# Altium schematic symbol library Other.SchLib: 32 symbols
Pins are listed as number, name and electrical type; pins without a type are passive.

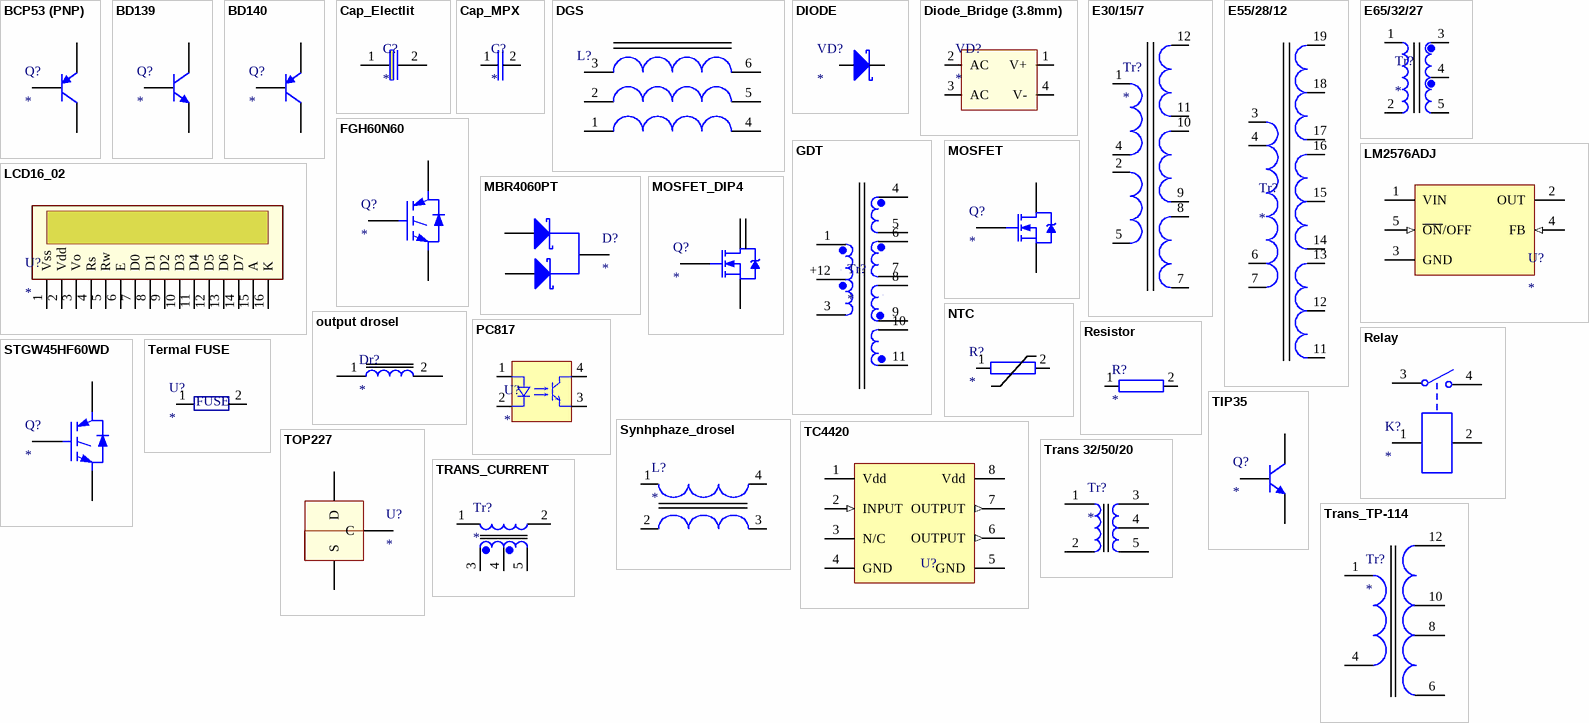
[diagram p0: symbols BCP53 (PNP) to Trans_TP-114]

## BCP53 (PNP)
designator Q?
footprint SOT223-4L (SOT223, 4-Leads, Body 6.5x3.5mm, Pitch 2.3mm, Lead Span 7mm, IPC High Density)
pins: 1 B, 2 C, 3 E

## BD139
designator Q?
footprint to-126
pins: 1 E, 2 C, 3 B

## BD140
designator Q?
footprint to-126
pins: 1 E, 2 C, 3 B

## Cap_Electlit
designator C?
footprint CAP 470uF/450V (35x11)
footprint CAP100uF/450V
footprint CAPPR7.5-16x25 (Capacitor, Electrolytic, Radial; Body 16 x 25 mm (Dia.xH typ); Pin Spacing 7.5 mm (typ))
footprint CAPPRS10-22x45 (Capacitor, Electrolytic, Radial, Snap-In Pins; Body 22 x 45 mm (Dia.xH typ); Pin Spacing 10 mm (typ))
footprint CAPPRS10-22x45 (Capacitor, Electrolytic, Radial, Snap-In Pins; Body 22 x 45 mm (Dia.xH typ); Pin Spacing 10 mm (typ))
footprint CAPPR5-13x25 (Capacitor, Electrolytic, Radial; Body 13 x 25 mm (Dia.xH typ); Pin Spacing 5 mm (typ))
pins: 1, 2

## Cap_MPX
designator C?
footprint Cap_(15mm)
footprint Cap_1kV_Y_(8mm)
footprint CAPR5.08-5.1x2.5 (Capacitor, Ceramic, Thru-Hole, Dipped Radial; Body 5.1 x 2.5 mm (WxT) Pin Spacing 5.08 mm (typ))
footprint CAPR10.16-11.5x3.6 (Capacitor, Ceramic, Thru-Hole, Dipped Radial; Body 11.5 x 3.6 mm (WxT) Pin Spacing 10.16 mm (typ))
pins: 1, 2

## DGS
designator L?
footprint Drosel_Group_Stab
pins: 1 3, 2, 3 1, 4, 5, 6

## DIODE
designator VD?
footprint 1n4007
footprint SR5100
footprint DIO20.5-10x5.8 (Diode, Axial; Body 9.9 x 5.8 mm (LxDia. max), Lead Dia. 1.5 mm (max))
pins: 1 A1, 2 K2

## Diode_Bridge (3.8mm)
designator VD?
footprint DIODE_BRIDGE (3.8mm)
footprint diode_bridge(7.5mm)
footprint KBPC5010
pins: 1 V+, 2 AC, 3 AC, 4 V-

## E30/15/7
designator Tr?
footprint E30/15/7
pins: 1, 2, 4, 5, 7, 8, 9, 10, 11, 12

## E55/28/12
designator Tr?
footprint E55/28/21
pins: 3, 4, 6, 7, 11, 12, 13, 14, 15, 16, 17, 18, 19

## E65/32/27
designator Tr?
footprint E65/35/27
pins: 1 0, 2 1, 3 2, 4 3, 5 4

## FGH60N60
designator Q?
footprint TO_247
pins: 1 G, 2 C, 3 E

## GDT
designator Tr?
footprint GDT_full_bridge
pins: 1, 3, 4, 5 VT1, 6, 7, 8, 9, 10, 11, +12 2

## LCD16_02
designator U?
footprint LCD16x02
footprint LCD-1602A
pins: 1 Vss, 2 Vdd, 3 Vo, 4 Rs, 5 Rw, 6 E, 7 D0, 8 D1, 9 D2, 10 D3, 11 D4, 12 D5, 13 D6, 14 D7, 15 A, 16 K

## LM2576ADJ
designator U?
footprint T0-220-5A (TO, Thru-Hole, Vertical, Heatsink Mounted; 5 In-Line Leads; Pitch 1.70 mm)
pins: 1 VIN (power), 2 OUT (power), 3 GND (power), 4 FB (in), 5 ~{ON}/OFF (in)

## MBR4060PT
designator D?
footprint TO_247
footprint TO-220AB (TO, Thru-Hole, Vertical, Heatsink Mounted; 3 In-Line Leads; Pitch 2.54 mm)
pins: 1 A1, 2 K, 3 A2

## MOSFET
designator Q?
footprint TO_247
pins: 1 G, 2 D, 3 S

## MOSFET_DIP4
designator Q?
footprint DIP-4 (DIP; 4 Leads; Row Spacing 7.62 mm; Pitch 2.54 mm)
pins: 1 G, 2 S, 3 D, 4 D

## NTC
designator R?
footprint RESISTOR_0.125W
pins: 1, 2

## output drosel
designator Dr?
footprint Dresel(green-blue)
pins: 1, 2

## PC817
designator U?
footprint DIP-4 (DIP; 4 Leads; Row Spacing 7.62 mm; Pitch 2.54 mm)
pins: 1 A, 2 K, 3 E, 4 C

## Relay
designator K?
footprint SLA-24VDC-SL-A
pins: 1, 2, 3, 4

## Resistor
designator R?
footprint Resistor_5w
footprint RESISTOR_2W
footprint RESISTOR_1W
footprint RESISTOR_0.5W
footprint RESISTOR_0.25W
footprint RESISTOR_0.125W
footprint RES17.2-13.5X6.3 (Resistor, Axial; Body 13.5 x 6.3 mm (LxDia. max), Lead Dia. 0.7 mm (max))
footprint RES41.6-36.5X10.5 (Resistor, Axial; Body 36.5 x 10.5 x 10.5mm (LxWxH max), Lead Dia. 0.85 mm (max))
pins: 1, 2

## STGW45HF60WD
designator Q?
footprint TO_247
pins: 1 G, 2 C, 3 E

## Synhphaze_drosel
designator L?
footprint L_filtr_EE
footprint Drosel
pins: 1, 2, 3, 4

## TC4420
designator U?  (value not drawn)
footprint DIP-8 (DIP; 8 Leads; Row Spacing 7.62 mm; Pitch 2.54 mm)
pins: 1 Vdd (power), 2 INPUT (in), 3 N/C (power), 4 GND (power), 5 GND (power), 6 OUTPUT (out), 7 OUTPUT (out), 8 Vdd (power)

## Termal FUSE
designator U?
footprint TO220-2 TERMOSTAT
pins: 1, 2
text: FUSE

## TIP35
designator Q?
footprint TO_247
pins: 1 B, 2 C, 3 E

## TOP227
designator U?
footprint TO-220AB (TO, Thru-Hole, Vertical, Heatsink Mounted; 3 In-Line Leads; Pitch 2.54 mm)
pins: 1 C, 2 S, 3 D

## Trans 32/50/20
designator Tr?
footprint Trans 32/50/20
pins: 1, 2, 3, 4, 5

## TRANS_CURRENT
designator Tr?
footprint Trans_current (Footprint not found)
pins: 1, 2, 3, 4, 5

## Trans_TP-114
designator Tr?
footprint tp-114
pins: 1, 4, 6, 8, 10, 12